# EAGLE library part 150505RS73300 (library 150505RS73300)
Mid-Power LEDs - Single Colour WL-SMTW Wtrclr TopVw Red 2V 65mA 625nm 2020 (5050 Metric) Source: Datasheet <https://www.we-online.com/components/products/datasheet/150505RS73300.pdf>
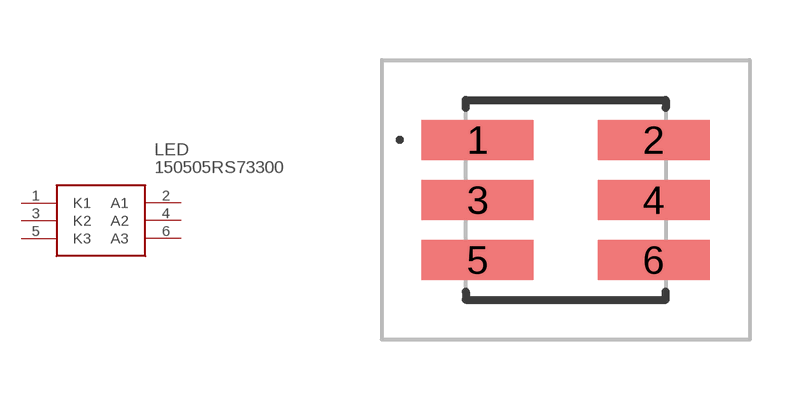
[diagram p0: symbol with the pads of 150505RS73300; footprint 150505RS73300]

Designator prefix LED

## 150505RS73300 (Description: Mid-Power LEDs - Single Colour WL-SMTW Wtrclr TopVw Red 2V 65mA 625nm 2020 (5050 Metric); Height: 1.7mm; Manufacturer_Name: Wurth Elektronik; Manufacturer_Part_Number: 150505RS73300; Mouser_Part_Number: 710-150505RS73300; Mouser_Price-Stock: https://www.mouser.co.uk/ProductDetail/Wurth-Elektronik/150505RS73300?qs=GedFDFLaBXFwseFXntEuXA%3D%3D)  [150505RS73300]
1  K1
2  A1
3  K2
4  A2
5  K3
6  A3

## Footprint 150505RS73300 (pad centres in mm)
2020 (5050 Metric)
smd 2.8 x 1: 1 -2.2,1.5; 2 2.2,1.5; 3 -2.2,0; 4 2.2,0; 5 -2.2,-1.5; 6 2.2,-1.5